# EAGLE library part RAMPORT (library RAM)
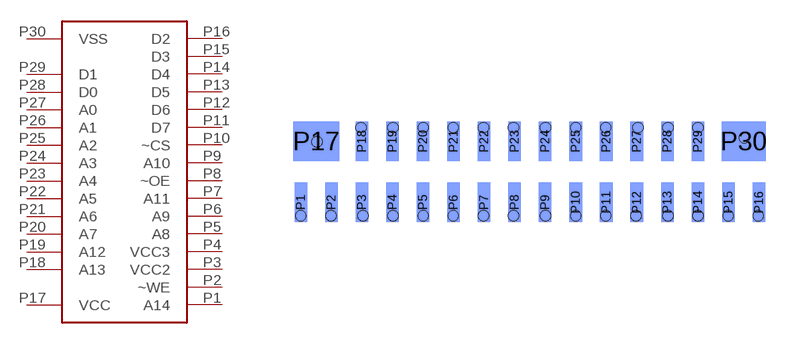
[diagram p0: symbol with the pads of CASIORAM; footprint CASIORAM]

Designator prefix -

## RAMPORT  [CASIORAM]
P1  A14
P2  ~WE
P3  VCC2
P4  VCC3
P5  A8
P6  A9
P7  A11
P8  ~OE
P9  A10
P10  ~CS
P11  D7
P12  D6
P13  D5
P14  D4
P15  D3
P16  D2
P17  VCC
P18  A13
P19  A12
P20  A7
P21  A6
P22  A5
P23  A4
P24  A3
P25  A2
P26  A1
P27  A0
P28  D0
P29  D1
P30  VSS

## Footprint CASIORAM (pad centres in mm)
smd 0.8 x 2.5 bottom: P1 0,-1.933; P2 1.933,-1.933; P3 3.867,-1.933; P4 5.8,-1.933; P5 7.733,-1.933; P6 9.667,-1.933; P7 11.6,-1.933; P8 13.533,-1.933; P9 15.467,-1.933; P10 17.4,-1.933; P11 19.333,-1.933; P12 21.267,-1.933; P13 23.2,-1.933; P14 25.133,-1.933; P15 27.067,-1.933; P16 29,-1.933; P18 3.867,1.933; P19 5.8,1.933; P20 7.733,1.933; P21 9.667,1.933; P22 11.6,1.933; P23 13.533,1.933; P24 15.467,1.933; P25 17.4,1.933; P26 19.333,1.933; P27 21.267,1.933; P28 23.2,1.933; P29 25.133,1.933
smd 2.9 x 2.5 bottom: P17 0.967,1.933
smd 2.8 x 2.5 bottom: P30 28.033,1.933
hole 0.65 at 3.81,2.794
hole 0.65 at 5.842,2.794
hole 0.65 at 7.747,2.794
hole 0.65 at 9.652,2.794
hole 0.65 at 11.557,2.794
hole 0.65 at 13.462,2.794
hole 0.65 at 15.494,2.794
hole 0.65 at 17.399,2.794
hole 0.65 at 19.304,2.794
hole 0.65 at 21.336,2.794
hole 0.65 at 23.241,2.794
hole 0.65 at 25.146,2.794
hole 0.65 at 28.067,2.159
hole 0.65 at 1.016,1.905
hole 0.65 at 0,-2.794
hole 0.65 at 1.905,-2.794
hole 0.65 at 3.937,-2.794
hole 0.65 at 5.842,-2.794
hole 0.65 at 7.747,-2.794
hole 0.65 at 9.652,-2.794
hole 0.65 at 11.557,-2.794
hole 0.65 at 13.462,-2.794
hole 0.65 at 15.494,-2.794
hole 0.65 at 17.399,-2.794
hole 0.65 at 19.304,-2.794
hole 0.65 at 21.209,-2.794
hole 0.65 at 23.241,-2.794
hole 0.65 at 25.146,-2.794
hole 0.65 at 27.051,-2.794
hole 0.65 at 28.956,-2.794